# EAGLE library part BK-18650-PC8 (library DigiKey)
BK-18650-PCB (4) 18650 Li-Ion Battery Holder Source: Digikey
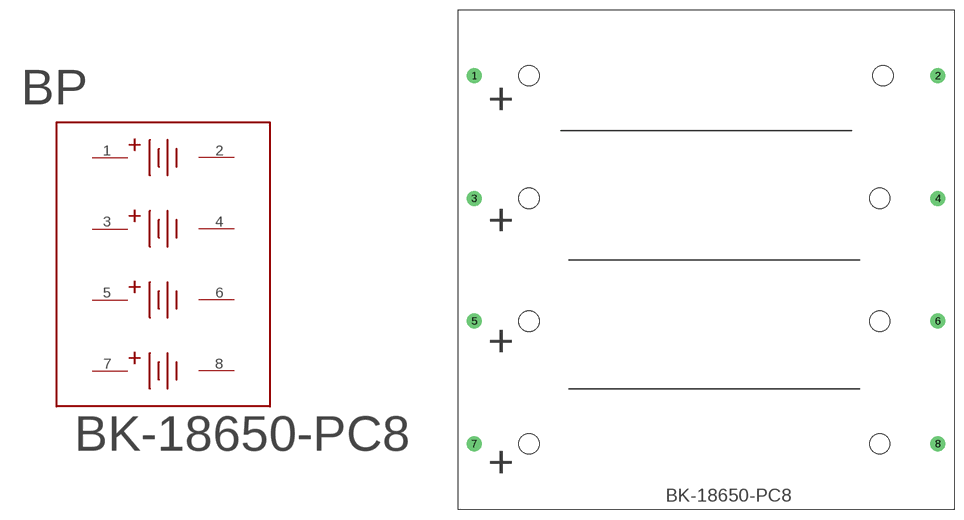
[diagram p1: symbol with the pads of BK-18650-PC8; footprint BK-18650-PC8]

Designator prefix BP

## BK-18650-PC8  [BK-18650-PC8]
1  1  sup
2  2  sup
3  3  sup
4  4  sup
5  5  sup
6  6  sup
7  7  sup
8  8  sup

## Footprint BK-18650-PC8 (pad centres in mm)
drill 1.575 pad 2.083: 1 -36.449,28.956; 2 36.449,28.956; 3 -36.449,9.652; 4 36.449,9.652; 5 -36.449,-9.652; 6 36.449,-9.652; 7 -36.449,-28.956; 8 36.449,-28.956
hole 3.2 at -27.813,-28.956
hole 3.2 at -27.813,-9.652
hole 3.2 at -27.813,9.652
hole 3.2 at -27.813,28.956
hole 3.2 at 27.305,-28.956
hole 3.2 at 27.305,-9.652
hole 3.2 at 27.305,9.652
hole 3.2 at 27.813,28.956